# EAGLE library part VINCOTECH-GPS_A1035-H (library m_misc)
Vincotech GPS Module Vincotech's GPS receiver module / smart antenna A1035-H is a highly integrated GPS antenna receiver module based on the technology of the GPS receiver module A1084 and a ceramic GPS patch antenna. Like on the A1084-A an RF switch is integrated on the module allowing changing of RF input from the on-module antenna to an external antenna. The module is capable of receiving signals from up to 20 GPS satellites and transferring them into position and timing information that can be read over a serial port. Small size and high-end GPS functionality are combined at low power consumption. Operable at 3.3V / 24mA (typ.) @ 1fix per second UART interface at CMOS level Small form factor of 30.48 x 16.51 mm2 (1.2? x 0.65?) Supported temperature range: -40°C to +85°C Single-sided SMT component, for reflow soldering RoHS compliant, lead-free Tape & reel packaging Excellent antenna support On-module patch antenna Antenna input for direct connection of external active antenna RF switch to select between antennas The receiver / smart antenna module is available as an off-the-shelf component, 100% tested and shipped in tape-and-reel.
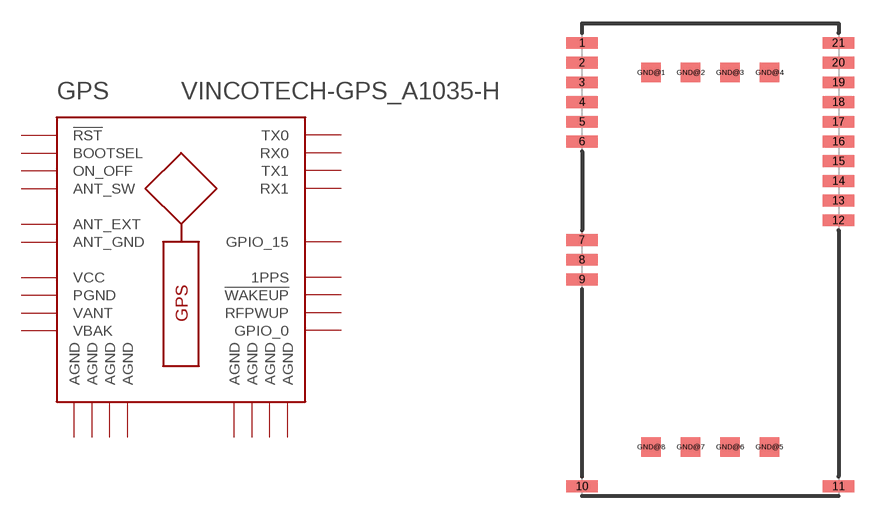
[diagram p29: symbol with the pads of A1035-H_GPS; footprint A1035-H_GPS]

Designator prefix GPS

## VINCOTECH-GPS_A1035-H  [A1035-H_GPS]
1  !RST  in
2  BOOTSEL  in
3  VCC  pwr
4  RFPWUP  out
5  GPIO_15  nc
6  PGND  pwr
7  ANT_GND  pas
8  ANT_EXT  pas
9  VANT  pwr
12  ANT_SW  in
13  GPIO_0  out
14  VBAK  pwr
15  1PPS  out
16  !WAKEUP  out
17  ON_OFF  in
18  RX1  in
19  TX1  out
20  TX0  out
21  RX0  in
GND@1  AGND  pwr
GND@2  AGND  pwr
GND@3  AGND  pwr
GND@4  AGND  pwr
GND@5  AGND  pwr
GND@6  AGND  pwr
GND@7  AGND  pwr
GND@8  AGND  pwr

## Footprint A1035-H_GPS (pad centres in mm)
Vincotech A1035-H GPS Module based on users manual V1.5 dated Dec-09
smd 2.032 x 0.762: 1 -8.255,13.97; 2 -8.255,12.7; 3 -8.255,11.43; 4 -8.255,10.16; 5 -8.255,8.89; 6 -8.255,7.62; 7 -8.255,1.27; 8 -8.255,0; 9 -8.255,-1.27; 10 -8.255,-14.605; 11 8.255,-14.605; 12 8.255,2.54; 13 8.255,3.81; 14 8.255,5.08; 15 8.255,6.35; 16 8.255,7.62; 17 8.255,8.89; 18 8.255,10.16; 19 8.255,11.43; 20 8.255,12.7; 21 8.255,13.97
smd 1.27 x 1.27: GND@1 -3.81,12.065; GND@2 -1.27,12.065; GND@3 1.27,12.065; GND@4 3.81,12.065; GND@5 3.81,-12.065; GND@6 1.27,-12.065; GND@7 -1.27,-12.065; GND@8 -3.81,-12.065